# Altium footprint library SMD Resistors 2012.PcbLib: 73 footprints (part 1 of 5)
Each footprint in its own frame and in the unit in brackets; x right, y up, seen from the top. Pads: shape width x height; smd on the part's side, far side on the other; paste and mask are expansions set on the pad; w line width, h text height; cw(c..) or ccw(c..) is an arc to the next point about the centre after c.
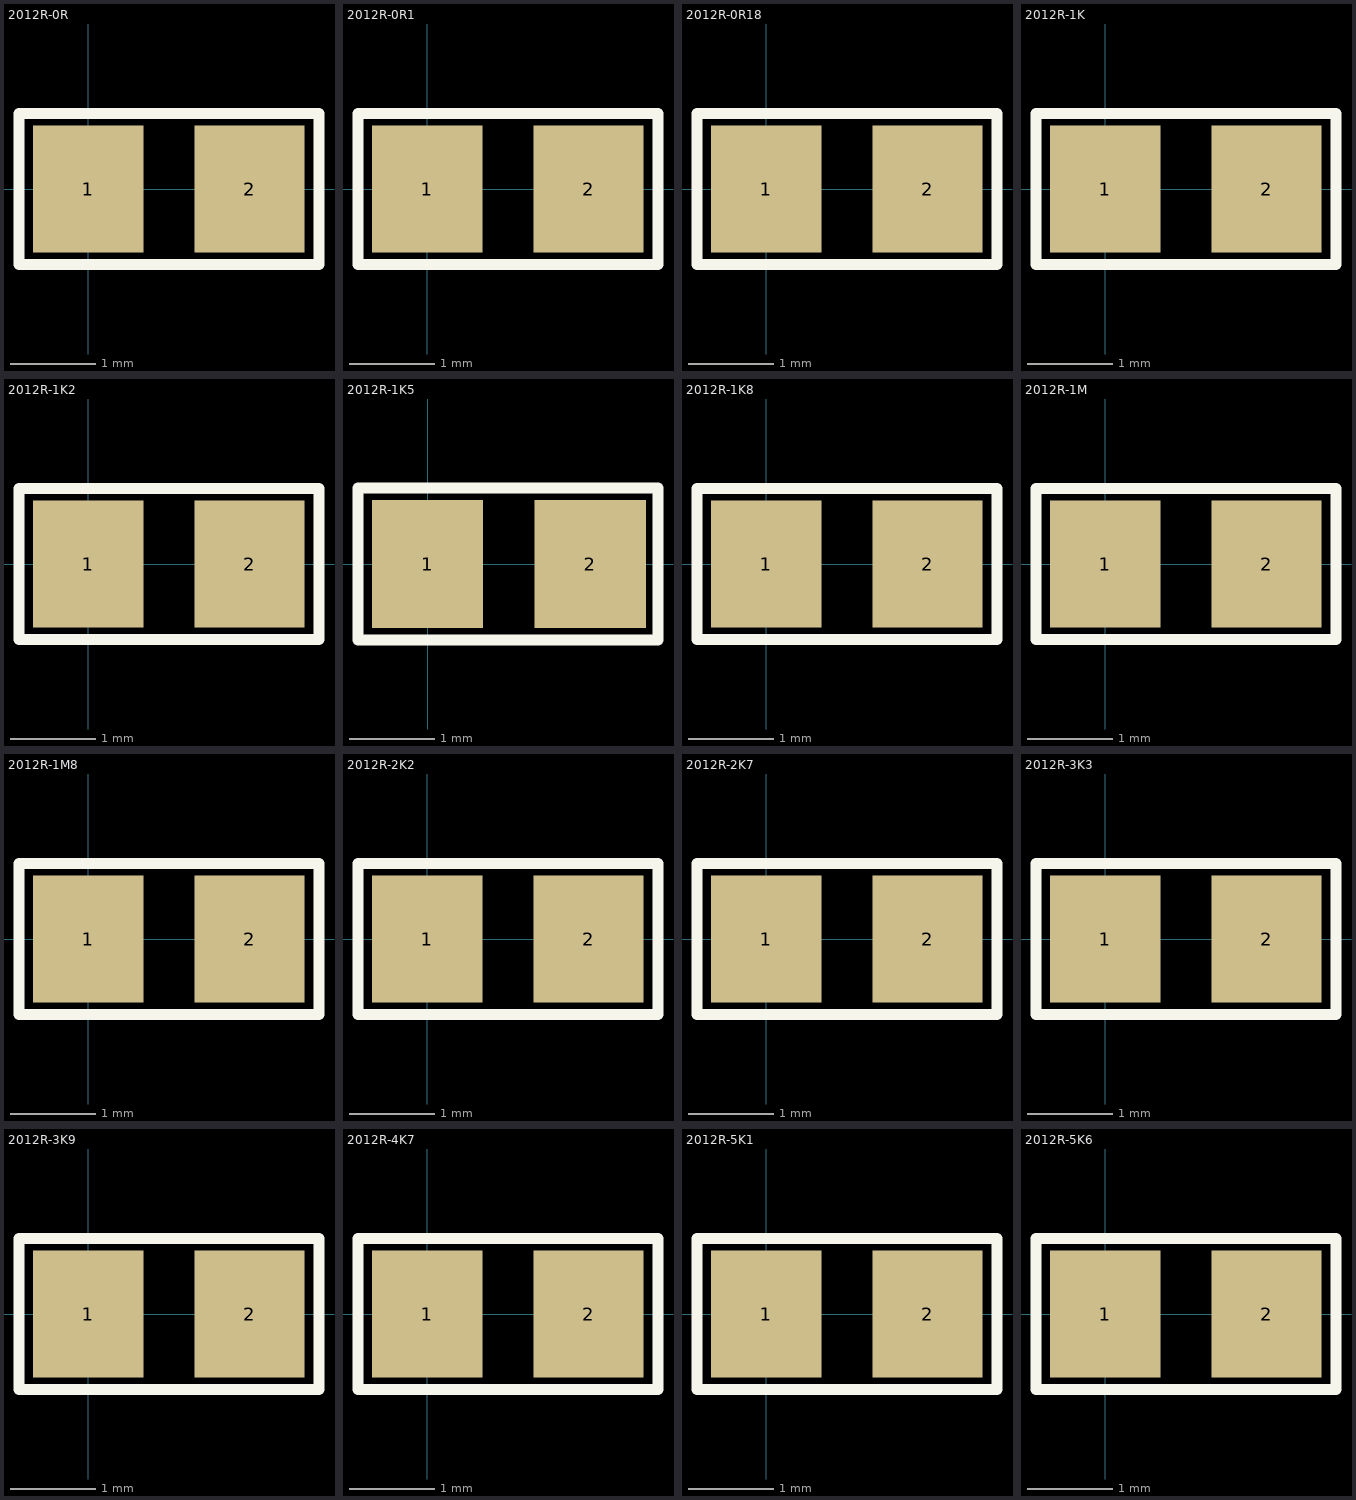
[diagram p0: the footprints below, top view; thin cyan lines are the x and y axes]

## 2012R-0R [mm] "RESISTOR 2012"
pads (2):
  rect 1.3x1.5 smd: 1(0,0) 2(1.9,0)
Top Overlay:
  lines w0.127: -0.813,-0.889 2.718,-0.889 2.718,0.889 -0.813,0.889 -0.813,-0.889
3D body: height 0.69, standoff 0.66, extent 0.749,-0.178 0.94,0.203
3D body: height 0.66, standoff 0, extent 1.575,-0.635 1.981,0.635
3D body: height 0.66, standoff 0.64, extent 0.33,-0.559 1.575,0.559
3D body: height 0.66, standoff 0, extent -0.076,-0.635 0.33,0.635
3D body: height 0.64, standoff 0, extent -0.051,-0.61 1.956,0.61
3D body: height 0.69, standoff 0.66, extent 1.029,-0.178 1.219,0.203

## 2012R-0R1 [mm] "RESISTOR 2012"
pads (2):
  rect 1.3x1.5 smd: 1(0,0) 2(1.9,0)
Top Overlay:
  lines w0.127: -0.813,-0.889 -0.813,0.889 2.718,0.889 2.718,-0.889 -0.813,-0.889
3D body: height 0.69, standoff 0.66, extent 0.826,-0.178 1.016,0.203
3D body: height 0.64, standoff 0, extent -0.051,-0.61 1.956,0.61
3D body: height 0.66, standoff 0, extent -0.076,-0.635 0.33,0.635
3D body: height 0.66, standoff 0.64, extent 0.33,-0.559 1.575,0.559
3D body: height 0.66, standoff 0, extent 1.575,-0.635 1.981,0.635
3D body: height 0.69, standoff 0.66, extent 0.572,-0.178 0.762,0.203
3D body: height 0.69, standoff 0.66, extent 1.079,-0.178 1.27,0.203

## 2012R-0R18 [mm] "RESISTOR 2012"
pads (2):
  rect 1.3x1.5 smd: 1(0,0) 2(1.9,0)
Top Overlay:
  lines w0.127: -0.813,-0.889 2.718,-0.889 2.718,0.889 -0.813,0.889 -0.813,-0.889
3D body: height 0.69, standoff 0.66, extent 1.219,-0.165 1.41,0.216
3D body: height 0.69, standoff 0.66, extent 0.978,-0.178 1.168,0.203
3D body: height 0.69, standoff 0.66, extent 0.47,-0.178 0.66,0.203
3D body: height 0.66, standoff 0, extent 1.575,-0.635 1.981,0.635
3D body: height 0.66, standoff 0.64, extent 0.33,-0.559 1.575,0.559
3D body: height 0.66, standoff 0, extent -0.076,-0.635 0.33,0.635
3D body: height 0.64, standoff 0, extent -0.051,-0.61 1.956,0.61
3D body: height 0.69, standoff 0.66, extent 0.724,-0.178 0.914,0.203

## 2012R-1K [mm] "RESISTOR 0805"
pads (2):
  rect 1.3x1.5 smd: 1(0,0) 2(1.9,0)
Top Overlay:
  lines w0.127: -0.813,-0.889 -0.813,0.889 2.718,0.889 2.718,-0.889 -0.813,-0.889
3D body: height 0.69, standoff 0.66, extent 1.105,-0.191 1.295,0.191
3D body: height 0.64, standoff 0, extent -0.051,-0.61 1.956,0.61
3D body: height 0.66, standoff 0, extent -0.076,-0.635 0.33,0.635
3D body: height 0.66, standoff 0.64, extent 0.33,-0.559 1.575,0.559
3D body: height 0.66, standoff 0, extent 1.575,-0.635 1.981,0.635
3D body: height 0.69, standoff 0.66, extent 0.851,-0.191 1.041,0.191
3D body: height 0.69, standoff 0.66, extent 0.597,-0.191 0.787,0.191

## 2012R-1K2 [mm] "RESISTOR 0805"
pads (2):
  rect 1.3x1.5 smd: 1(0,0) 2(1.9,0)
Top Overlay:
  lines w0.127: -0.813,-0.889 -0.813,0.889 2.718,0.889 2.718,-0.889 -0.813,-0.889
3D body: height 0.69, standoff 0.66, extent 1.105,-0.191 1.295,0.191
3D body: height 0.69, standoff 0.66, extent 0.597,-0.191 0.787,0.191
3D body: height 0.64, standoff 0, extent -0.051,-0.61 1.956,0.61
3D body: height 0.66, standoff 0, extent -0.076,-0.635 0.33,0.635
3D body: height 0.66, standoff 0.64, extent 0.33,-0.559 1.575,0.559
3D body: height 0.66, standoff 0, extent 1.575,-0.635 1.981,0.635
3D body: height 0.69, standoff 0.66, extent 0.851,-0.191 1.041,0.191

## 2012R-1K5 [mm] "RESISTOR 0805"
pads (2):
  rect 1.3x1.5 smd: 1(0,0) 2(1.9,0)
Top Overlay:
  lines w0.127: -0.813,-0.889 -0.813,0.889 2.692,0.889 2.692,-0.889 -0.813,-0.889
3D body: height 0.69, standoff 0.66, extent 1.092,-0.191 1.283,0.191
3D body: height 0.64, standoff 0, extent -0.051,-0.61 1.956,0.61
3D body: height 0.66, standoff 0, extent -0.076,-0.635 0.33,0.635
3D body: height 0.66, standoff 0.64, extent 0.33,-0.559 1.575,0.559
3D body: height 0.66, standoff 0, extent 1.575,-0.635 1.981,0.635
3D body: height 0.69, standoff 0.66, extent 0.838,-0.191 1.029,0.191
3D body: height 0.69, standoff 0.66, extent 0.597,-0.191 0.787,0.191

## 2012R-1K8 [mm] "RESISTOR 0805"
pads (2):
  rect 1.3x1.5 smd: 1(0,0) 2(1.9,0)
Top Overlay:
  lines w0.127: -0.813,-0.889 2.718,-0.889 2.718,0.889 -0.813,0.889 -0.813,-0.889
3D body: height 0.69, standoff 0.66, extent 0.851,-0.191 1.041,0.191
3D body: height 0.69, standoff 0.66, extent 0.597,-0.191 0.787,0.191
3D body: height 0.66, standoff 0, extent 1.575,-0.635 1.981,0.635
3D body: height 0.66, standoff 0.64, extent 0.33,-0.559 1.575,0.559
3D body: height 0.66, standoff 0, extent -0.076,-0.635 0.33,0.635
3D body: height 0.64, standoff 0, extent -0.051,-0.61 1.956,0.61
3D body: height 0.69, standoff 0.66, extent 1.105,-0.191 1.295,0.191

## 2012R-1M [mm] "RESISTOR 0805  1M"
pads (2):
  rect 1.3x1.5 smd: 1(0,0) 2(1.9,0)
Top Overlay:
  lines w0.127: -0.813,-0.889 -0.813,0.889 2.718,0.889 2.718,-0.889 -0.813,-0.889
3D body: height 0.69, standoff 0.66, extent 1.118,-0.191 1.308,0.191
3D body: height 0.69, standoff 0.66, extent 0.597,-0.191 0.787,0.191
3D body: height 0.64, standoff 0, extent -0.051,-0.61 1.956,0.61
3D body: height 0.66, standoff 0, extent -0.076,-0.635 0.33,0.635
3D body: height 0.66, standoff 0.64, extent 0.33,-0.559 1.575,0.559
3D body: height 0.66, standoff 0, extent 1.575,-0.635 1.981,0.635
3D body: height 0.69, standoff 0.66, extent 0.851,-0.191 1.041,0.191

## 2012R-1M8 [mm] "RESISTOR 0805"
pads (2):
  rect 1.3x1.5 smd: 1(0,0) 2(1.9,0)
Top Overlay:
  lines w0.127: -0.813,-0.889 -0.813,0.889 2.718,0.889 2.718,-0.889 -0.813,-0.889
3D body: height 0.69, standoff 0.66, extent 1.13,-0.191 1.321,0.191
3D body: height 0.64, standoff 0, extent -0.051,-0.61 1.956,0.61
3D body: height 0.66, standoff 0, extent -0.076,-0.635 0.33,0.635
3D body: height 0.66, standoff 0.64, extent 0.33,-0.559 1.575,0.559
3D body: height 0.66, standoff 0, extent 1.575,-0.635 1.981,0.635
3D body: height 0.69, standoff 0.66, extent 0.597,-0.191 0.787,0.191
3D body: height 0.69, standoff 0.66, extent 0.851,-0.191 1.041,0.191

## 2012R-2K2 [mm] "RESISTOR 0805"
pads (2):
  rect 1.3x1.5 smd: 1(0,0) 2(1.9,0)
Top Overlay:
  lines w0.127: -0.813,-0.889 2.718,-0.889 2.718,0.889 -0.813,0.889 -0.813,-0.889
3D body: height 0.69, standoff 0.66, extent 1.105,-0.191 1.295,0.191
3D body: height 0.69, standoff 0.66, extent 0.851,-0.191 1.041,0.191
3D body: height 0.69, standoff 0.66, extent 0.597,-0.191 0.787,0.191
3D body: height 0.66, standoff 0, extent 1.575,-0.635 1.981,0.635
3D body: height 0.66, standoff 0.64, extent 0.33,-0.559 1.575,0.559
3D body: height 0.66, standoff 0, extent -0.076,-0.635 0.33,0.635
3D body: height 0.64, standoff 0, extent -0.051,-0.61 1.956,0.61

## 2012R-2K7 [mm] "RESISTOR 0805"
pads (2):
  rect 1.3x1.5 smd: 1(0,0) 2(1.9,0)
Top Overlay:
  lines w0.127: -0.813,-0.889 2.718,-0.889 2.718,0.889 -0.813,0.889 -0.813,-0.889
3D body: height 0.69, standoff 0.66, extent 1.105,-0.191 1.295,0.191
3D body: height 0.69, standoff 0.66, extent 0.597,-0.191 0.787,0.191
3D body: height 0.69, standoff 0.66, extent 0.851,-0.191 1.041,0.191
3D body: height 0.66, standoff 0, extent 1.575,-0.635 1.981,0.635
3D body: height 0.66, standoff 0.64, extent 0.33,-0.559 1.575,0.559
3D body: height 0.66, standoff 0, extent -0.076,-0.635 0.33,0.635
3D body: height 0.64, standoff 0, extent -0.051,-0.61 1.956,0.61

## 2012R-3K3 [mm] "RESISTOR 0805"
pads (2):
  rect 1.3x1.5 smd: 1(0,0) 2(1.9,0)
Top Overlay:
  lines w0.127: -0.813,-0.889 2.718,-0.889 2.718,0.889 -0.813,0.889 -0.813,-0.889
3D body: height 0.69, standoff 0.66, extent 0.597,-0.191 0.787,0.191
3D body: height 0.69, standoff 0.66, extent 0.851,-0.191 1.041,0.191
3D body: height 0.66, standoff 0, extent 1.575,-0.635 1.981,0.635
3D body: height 0.66, standoff 0.64, extent 0.33,-0.559 1.575,0.559
3D body: height 0.66, standoff 0, extent -0.076,-0.635 0.33,0.635
3D body: height 0.64, standoff 0, extent -0.051,-0.61 1.956,0.61
3D body: height 0.69, standoff 0.66, extent 1.105,-0.191 1.295,0.191

## 2012R-3K9 [mm] "RESISTOR 0805"
pads (2):
  rect 1.3x1.5 smd: 1(0,0) 2(1.9,0)
Top Overlay:
  lines w0.127: -0.813,-0.889 2.718,-0.889 2.718,0.889 -0.813,0.889 -0.813,-0.889
3D body: height 0.69, standoff 0.66, extent 1.118,-0.191 1.308,0.191
3D body: height 0.66, standoff 0, extent 1.575,-0.635 1.981,0.635
3D body: height 0.66, standoff 0.64, extent 0.33,-0.559 1.575,0.559
3D body: height 0.66, standoff 0, extent -0.076,-0.635 0.33,0.635
3D body: height 0.64, standoff 0, extent -0.051,-0.61 1.956,0.61
3D body: height 0.69, standoff 0.66, extent 0.851,-0.191 1.041,0.191
3D body: height 0.69, standoff 0.66, extent 0.597,-0.191 0.787,0.191

## 2012R-4K7 [mm] "RESISTOR 0805"
pads (2):
  rect 1.3x1.5 smd: 1(0,0) 2(1.9,0)
Top Overlay:
  lines w0.127: -0.813,-0.889 -0.813,0.889 2.718,0.889 2.718,-0.889 -0.813,-0.889
3D body: height 0.69, standoff 0.66, extent 1.105,-0.191 1.295,0.191
3D body: height 0.69, standoff 0.66, extent 0.597,-0.191 0.787,0.191
3D body: height 0.69, standoff 0.66, extent 0.851,-0.191 1.041,0.191
3D body: height 0.64, standoff 0, extent -0.051,-0.61 1.956,0.61
3D body: height 0.66, standoff 0, extent -0.076,-0.635 0.33,0.635
3D body: height 0.66, standoff 0.64, extent 0.33,-0.559 1.575,0.559
3D body: height 0.66, standoff 0, extent 1.575,-0.635 1.981,0.635

## 2012R-5K1 [mm] "RESISTOR 0805"
pads (2):
  rect 1.3x1.5 smd: 1(0,0) 2(1.9,0)
Top Overlay:
  lines w0.127: -0.813,-0.889 2.718,-0.889 2.718,0.889 -0.813,0.889 -0.813,-0.889
3D body: height 0.66, standoff 0, extent 1.575,-0.635 1.981,0.635
3D body: height 0.66, standoff 0.64, extent 0.33,-0.559 1.575,0.559
3D body: height 0.66, standoff 0, extent -0.076,-0.635 0.33,0.635
3D body: height 0.64, standoff 0, extent -0.051,-0.61 1.956,0.61
3D body: height 0.69, standoff 0.66, extent 0.597,-0.191 0.787,0.191
3D body: height 0.69, standoff 0.66, extent 0.851,-0.191 1.041,0.191
3D body: height 0.69, standoff 0.66, extent 1.13,-0.191 1.321,0.191

## 2012R-5K6 [mm] "RESISTOR 0805"
pads (2):
  rect 1.3x1.5 smd: 1(0,0) 2(1.9,0)
Top Overlay:
  lines w0.127: -0.813,-0.889 2.718,-0.889 2.718,0.889 -0.813,0.889 -0.813,-0.889
3D body: height 0.66, standoff 0, extent 1.575,-0.635 1.981,0.635
3D body: height 0.66, standoff 0.64, extent 0.33,-0.559 1.575,0.559
3D body: height 0.66, standoff 0, extent -0.076,-0.635 0.33,0.635
3D body: height 0.64, standoff 0, extent -0.051,-0.61 1.956,0.61
3D body: height 0.69, standoff 0.66, extent 0.597,-0.191 0.787,0.191
3D body: height 0.69, standoff 0.66, extent 0.851,-0.191 1.041,0.191
3D body: height 0.69, standoff 0.66, extent 1.105,-0.191 1.295,0.191